# Altium schematic symbol library ICs - Integrated Power MOSFETs.SchLib: 1 symbol
Pins are listed as number, name and electrical type; pins without a type are passive.

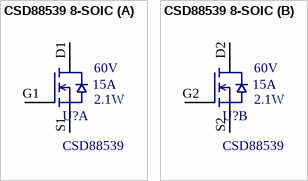
[diagram p0: symbol CSD88539 8-SOIC]

## CSD88539 8-SOIC
designator U?, comment CSD88539  Voltage: 60V  Power: 2.1W  Current: 15A
Mosfet Array 2 N-Channel (Dual) 60V 15A 2.1W Surface Mount 8-SOIC; Manufacturer 1: Texas Instruments; Manufacturer 1 PN: CSD88539ND; Digikey PN: 296-37304-1-ND; Mouser PN: 595-CSD88539ND
footprint CSD88539ND 8-SOIC (Mosfet Array 2 N-Channel (Dual) 60V 15A 2.1W Surface Mount 8-SOIC)
part A pins: D1 (power), D11 (power), G1 (power), S1 (power)
part B pins: D2 (power), D21 (power), G2 (power), S2 (power)